# Altium footprint library UFL.PcbLib: 1 footprints
Each footprint in its own frame and in the unit in brackets; x right, y up, seen from the top. Pads: shape width x height; smd on the part's side, far side on the other; paste and mask are expansions set on the pad; w line width, h text height; cw(c..) or ccw(c..) is an arc to the next point about the centre after c.
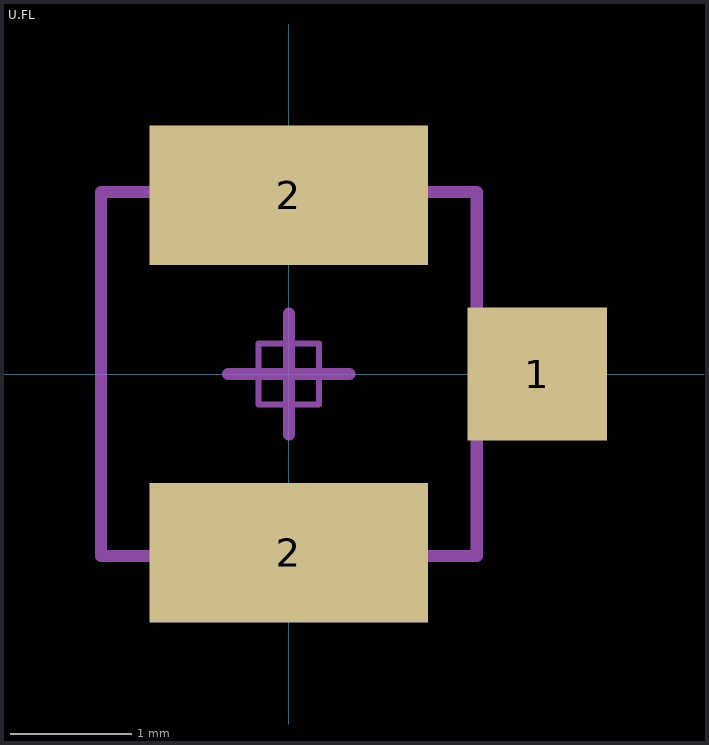
[diagram p0: the footprint, top view; thin cyan lines are the x and y axes]

## U.FL [mm] "DFN, 3-Leads, Body 3.00x3.10mm, Pitch 2.05mm, IPC Medium Density"
height 1.25
pads (3):
  rect 1.15x1.1 smd: 1(2.05,0)
  rect 2.3x1.15 smd: 2(0,-1.475) 2(0,1.475)
Mechanical 13:
  lines w0.1: -1.55,-1.5 1.55,-1.5 1.55,1.5 -1.55,1.5 -1.55,-1.5
Mechanical 15:
  lines w0.05: -0.25,-0.25 0.25,-0.25 0.25,0.25 -0.25,0.25 -0.25,-0.25
  lines w0.1: -0.5,0 0.5,0 ; 0,-0.5 0,0.5
3D body: height 1.25, standoff 0, extent -1.55,-1.5 1.55,1.5